# Altium footprint library TI PCB.PCBLIB: 93 footprints (part 1 of 6)
Each footprint in its own frame and in the unit in brackets; x right, y up, seen from the top. Pads: shape width x height; smd on the part's side, far side on the other; paste and mask are expansions set on the pad; w line width, h text height; cw(c..) or ccw(c..) is an arc to the next point about the centre after c.
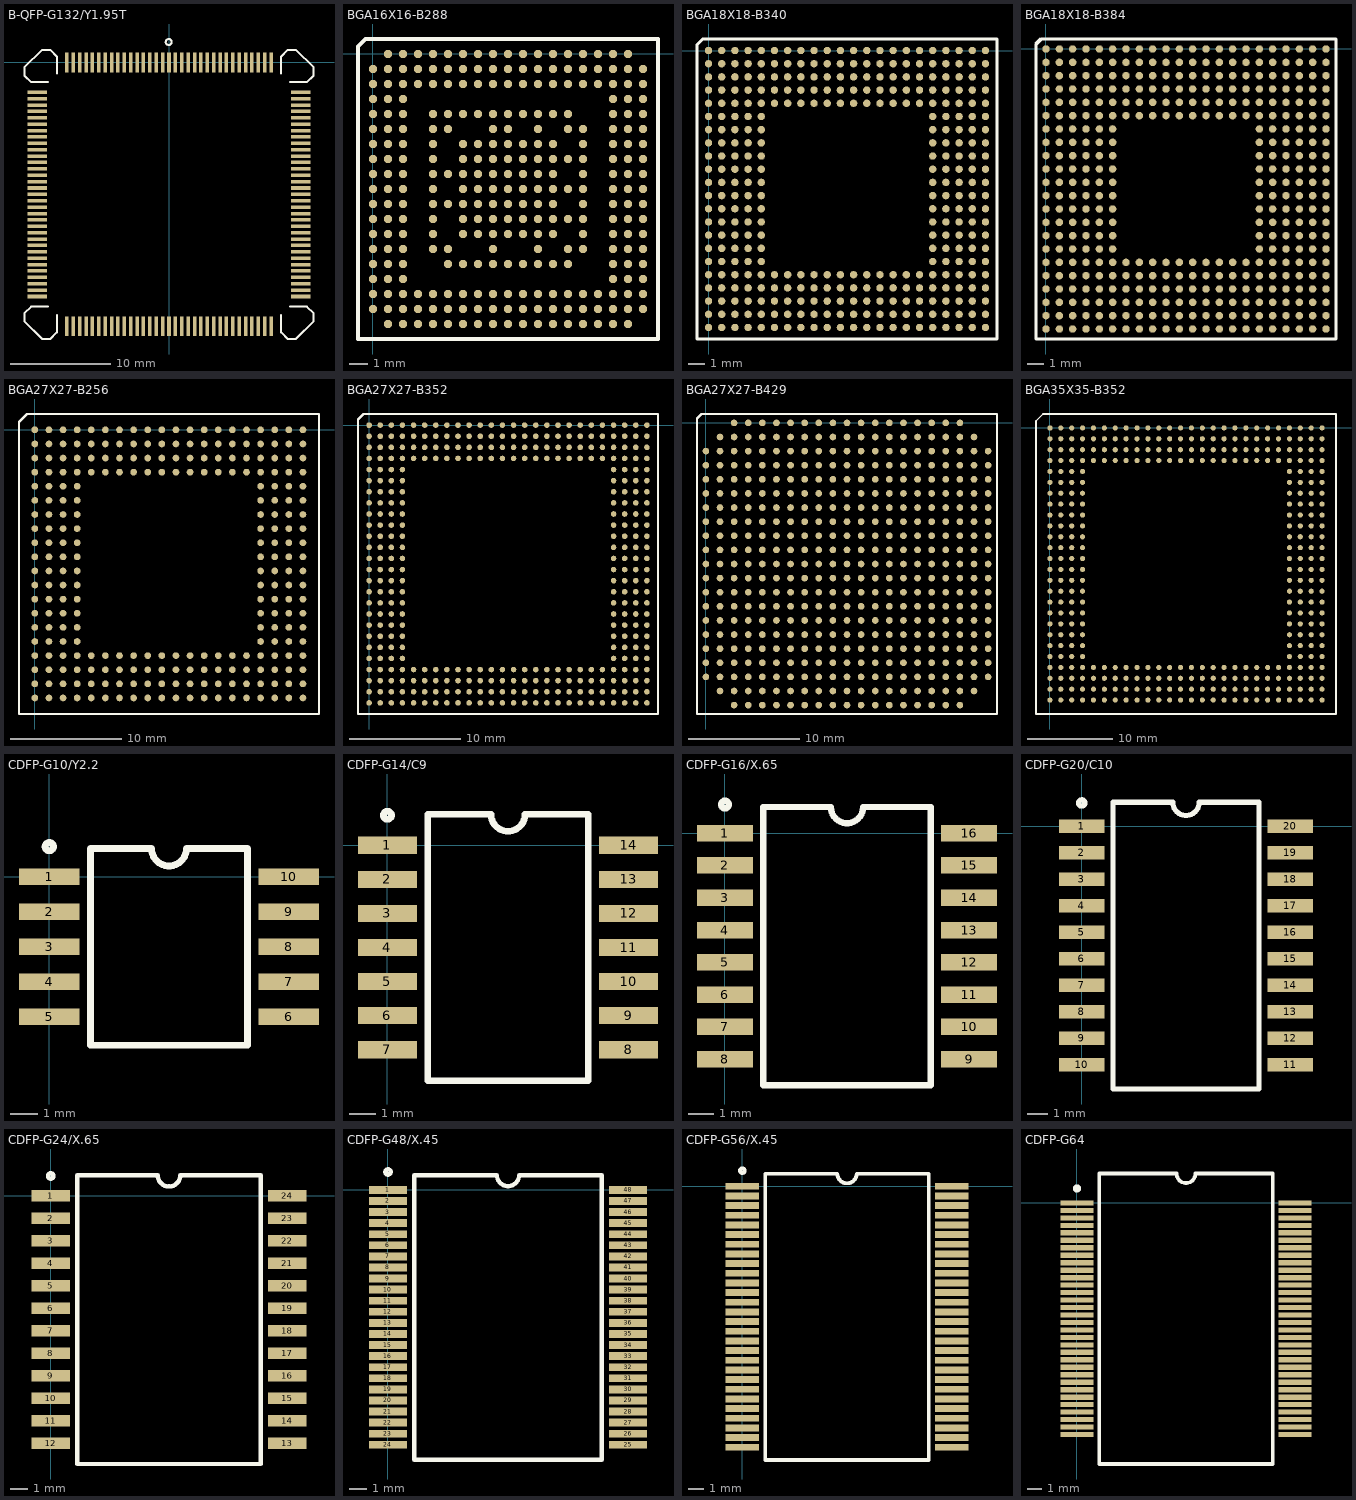
[diagram p0: the footprints below, top view; thin cyan lines are the x and y axes]

## B-QFP-G132/Y1.95T [mm]
pads (132):
  rect 0.35x1.95 smd: 1(0,0) 2(-0.635,0) 3(-1.27,0) 4(-1.905,0) 5(-2.54,0) 6(-3.175,0) 7(-3.81,0) 8(-4.445,0) 9(-5.08,0) 10(-5.715,0) 11(-6.35,0) 12(-6.985,0) 13(-7.62,0) 14(-8.255,0) 15(-8.89,0) 16(-9.525,0) 17(-10.16,0) 51(-10.16,-26.25) 52(-9.525,-26.25) 53(-8.89,-26.25) 54(-8.255,-26.25) 55(-7.62,-26.25) 56(-6.985,-26.25) 57(-6.35,-26.25) 58(-5.715,-26.25) 59(-5.08,-26.25) 60(-4.445,-26.25) 61(-3.81,-26.25) 62(-3.175,-26.25) 63(-2.54,-26.25) 64(-1.905,-26.25) 65(-1.27,-26.25) 66(-0.635,-26.25) 67(0,-26.25) 68(0.635,-26.25) 69(1.27,-26.25) 70(1.905,-26.25) 71(2.54,-26.25) 72(3.175,-26.25) 73(3.81,-26.25) 74(4.445,-26.25) 75(5.08,-26.25) 76(5.715,-26.25) 77(6.35,-26.25) 78(6.985,-26.25) 79(7.62,-26.25) 80(8.255,-26.25) 81(8.89,-26.25) 82(9.525,-26.25) 83(10.16,-26.25) 117(10.16,0) 118(9.525,0) 119(8.89,0) 120(8.255,0) 121(7.62,0) 122(6.985,0) 123(6.35,0) 124(5.715,0) 125(5.08,0) 126(4.445,0) 127(3.81,0) 128(3.175,0) 129(2.54,0) 130(1.905,0) 131(1.27,0) 132(0.635,0)
  rect 1.95x0.35 smd: 18(-13.125,-2.965) 19(-13.125,-3.6) 20(-13.125,-4.235) 21(-13.125,-4.87) 22(-13.125,-5.505) 23(-13.125,-6.14) 24(-13.125,-6.775) 25(-13.125,-7.41) 26(-13.125,-8.045) 27(-13.125,-8.68) 28(-13.125,-9.315) 29(-13.125,-9.95) 30(-13.125,-10.585) 31(-13.125,-11.22) 32(-13.125,-11.855) 33(-13.125,-12.49) 34(-13.125,-13.125) 35(-13.125,-13.76) 36(-13.125,-14.395) 37(-13.125,-15.03) 38(-13.125,-15.665) 39(-13.125,-16.3) 40(-13.125,-16.935) 41(-13.125,-17.57) 42(-13.125,-18.205) 43(-13.125,-18.84) 44(-13.125,-19.475) 45(-13.125,-20.11) 46(-13.125,-20.745) 47(-13.125,-21.38) 48(-13.125,-22.015) 49(-13.125,-22.65) 50(-13.125,-23.285) 84(13.125,-23.285) 85(13.125,-22.65) 86(13.125,-22.015) 87(13.125,-21.38) 88(13.125,-20.745) 89(13.125,-20.11) 90(13.125,-19.475) 91(13.125,-18.84) 92(13.125,-18.205) 93(13.125,-17.57) 94(13.125,-16.935) 95(13.125,-16.3) 96(13.125,-15.665) 97(13.125,-15.03) 98(13.125,-14.395) 99(13.125,-13.76) 100(13.125,-13.125) 101(13.125,-12.49) 102(13.125,-11.855) 103(13.125,-11.22) 104(13.125,-10.585) 105(13.125,-9.95) 106(13.125,-9.315) 107(13.125,-8.68) 108(13.125,-8.045) 109(13.125,-7.41) 110(13.125,-6.775) 111(13.125,-6.14) 112(13.125,-5.505) 113(13.125,-4.87) 114(13.125,-4.235) 115(13.125,-3.6) 116(13.125,-2.965)
Top Overlay:
  circle w0.2: c-0.03,2.035 r0.3
  lines w0.2: -12.02,-24.285 -13.717,-24.285 -14.387,-24.955 -14.387,-25.755 -12.63,-27.512 -11.83,-27.512 -11.16,-26.842 -11.16,-25.145 ; -12.02,-1.965 -13.717,-1.965 -14.387,-1.295 -14.387,-0.495 -12.63,1.263 -11.83,1.263 -11.16,0.593 -11.16,-1.105 ; 11.16,-25.145 11.16,-26.842 11.83,-27.512 12.63,-27.512 14.387,-25.755 14.387,-24.955 13.717,-24.285 12.02,-24.285 ; 11.16,-1.105 11.16,0.593 11.83,1.263 12.63,1.263 14.387,-0.495 14.387,-1.295 13.717,-1.965 12.02,-1.965

## BGA16X16-B288 [mm]
pads (288):
  round 0.45 smd: A2(0.8,0) A3(1.6,0) A4(2.4,0) A5(3.2,0) A6(4,0) A7(4.8,0) A8(5.6,0) A9(6.4,0) A10(7.2,0) A11(8,0) A12(8.8,0) A13(9.6,0) A14(10.4,0) A15(11.2,0) A16(12,0) A17(12.8,0) A18(13.6,0) B1(0,-0.8) B2(0.8,-0.8) B3(1.6,-0.8) B4(2.4,-0.8) B5(3.2,-0.8) B6(4,-0.8) B7(4.8,-0.8) B8(5.6,-0.8) B9(6.4,-0.8) B10(7.2,-0.8) B11(8,-0.8) B12(8.8,-0.8) B13(9.6,-0.8) B14(10.4,-0.8) B15(11.2,-0.8) B16(12,-0.8) B17(12.8,-0.8) B18(13.6,-0.8) B19(14.4,-0.8) C1(0,-1.6) C2(0.8,-1.6) C3(1.6,-1.6) C4(2.4,-1.6) C5(3.2,-1.6) C6(4,-1.6) C7(4.8,-1.6) C8(5.6,-1.6) C9(6.4,-1.6) C10(7.2,-1.6) C11(8,-1.6) C12(8.8,-1.6) C13(9.6,-1.6) C14(10.4,-1.6) C15(11.2,-1.6) C16(12,-1.6) C17(12.8,-1.6) C18(13.6,-1.6) C19(14.4,-1.6) D1(0,-2.4) D2(0.8,-2.4) D3(1.6,-2.4) D17(12.8,-2.4) D18(13.6,-2.4) D19(14.4,-2.4) E1(0,-3.2) E2(0.8,-3.2) E3(1.6,-3.2) E5(3.2,-3.2) E6(4,-3.2) E7(4.8,-3.2) E8(5.6,-3.2) E9(6.4,-3.2) E10(7.2,-3.2) E11(8,-3.2) E12(8.8,-3.2) E13(9.6,-3.2) E14(10.4,-3.2) E17(12.8,-3.2) E18(13.6,-3.2) E19(14.4,-3.2) F1(0,-4) F2(0.8,-4) F3(1.6,-4) F5(3.2,-4) F6(4,-4) F9(6.4,-4) F10(7.2,-4) F12(8.8,-4) F14(10.4,-4) F15(11.2,-4) F17(12.8,-4) F18(13.6,-4) F19(14.4,-4) G1(0,-4.8) G2(0.8,-4.8) G3(1.6,-4.8) G5(3.2,-4.8) G7(4.8,-4.8) G8(5.6,-4.8) G9(6.4,-4.8) G10(7.2,-4.8) G11(8,-4.8) G12(8.8,-4.8) G13(9.6,-4.8) G15(11.2,-4.8) G17(12.8,-4.8) G18(13.6,-4.8) G19(14.4,-4.8) H1(0,-5.6) H2(0.8,-5.6) H3(1.6,-5.6) H5(3.2,-5.6) H7(4.8,-5.6) H8(5.6,-5.6) H9(6.4,-5.6) H10(7.2,-5.6) H11(8,-5.6) H12(8.8,-5.6) H13(9.6,-5.6) H14(10.4,-5.6) H15(11.2,-5.6) H17(12.8,-5.6) H18(13.6,-5.6) H19(14.4,-5.6) J1(0,-6.4) J2(0.8,-6.4) J3(1.6,-6.4) J5(3.2,-6.4) J6(4,-6.4) J7(4.8,-6.4) J8(5.6,-6.4) J9(6.4,-6.4) J10(7.2,-6.4) J11(8,-6.4) J12(8.8,-6.4) J13(9.6,-6.4) J15(11.2,-6.4) J17(12.8,-6.4) J18(13.6,-6.4) J19(14.4,-6.4) K1(0,-7.2) K2(0.8,-7.2) K3(1.6,-7.2) K5(3.2,-7.2) K7(4.8,-7.2) K8(5.6,-7.2) K9(6.4,-7.2) K10(7.2,-7.2) K11(8,-7.2) K12(8.8,-7.2) K13(9.6,-7.2) K14(10.4,-7.2) K15(11.2,-7.2) K17(12.8,-7.2) K18(13.6,-7.2) K19(14.4,-7.2) L1(0,-8) L2(0.8,-8) L3(1.6,-8) L5(3.2,-8) L6(4,-8) L7(4.8,-8) L8(5.6,-8) L9(6.4,-8) L10(7.2,-8) L11(8,-8) L12(8.8,-8) L13(9.6,-8) L15(11.2,-8) L17(12.8,-8) L18(13.6,-8) L19(14.4,-8) M1(0,-8.8) M2(0.8,-8.8) M3(1.6,-8.8) M5(3.2,-8.8) M7(4.8,-8.8) M8(5.6,-8.8) M9(6.4,-8.8) M10(7.2,-8.8) M11(8,-8.8) M12(8.8,-8.8) M13(9.6,-8.8) M14(10.4,-8.8) M15(11.2,-8.8) M17(12.8,-8.8) M18(13.6,-8.8) M19(14.4,-8.8) N1(0,-9.6) N2(0.8,-9.6) N3(1.6,-9.6) N5(3.2,-9.6) N7(4.8,-9.6) N8(5.6,-9.6) N9(6.4,-9.6) N10(7.2,-9.6) N11(8,-9.6) N12(8.8,-9.6) N13(9.6,-9.6) N15(11.2,-9.6) N17(12.8,-9.6) N18(13.6,-9.6) N19(14.4,-9.6) P1(0,-10.4) P2(0.8,-10.4) P3(1.6,-10.4) P5(3.2,-10.4) P6(4,-10.4) P9(6.4,-10.4) P12(8.8,-10.4) P14(10.4,-10.4) P15(11.2,-10.4) P17(12.8,-10.4) P18(13.6,-10.4) P19(14.4,-10.4) R1(0,-11.2) R2(0.8,-11.2) R3(1.6,-11.2) R6(4,-11.2) R7(4.8,-11.2) R8(5.6,-11.2) R9(6.4,-11.2) R10(7.2,-11.2) R11(8,-11.2) R12(8.8,-11.2) R13(9.6,-11.2) R14(10.4,-11.2) R17(12.8,-11.2) R18(13.6,-11.2) R19(14.4,-11.2) T1(0,-12) T2(0.8,-12) T3(1.6,-12) T17(12.8,-12) T18(13.6,-12) T19(14.4,-12) U1(0,-12.8) U2(0.8,-12.8) U3(1.6,-12.8) U4(2.4,-12.8) U5(3.2,-12.8) U6(4,-12.8) U7(4.8,-12.8) U8(5.6,-12.8) U9(6.4,-12.8) U10(7.2,-12.8) U11(8,-12.8) U12(8.8,-12.8) U13(9.6,-12.8) U14(10.4,-12.8) U15(11.2,-12.8) U16(12,-12.8) U17(12.8,-12.8) U18(13.6,-12.8) U19(14.4,-12.8) V1(0,-13.6) V2(0.8,-13.6) V3(1.6,-13.6) V4(2.4,-13.6) V5(3.2,-13.6) V6(4,-13.6) V7(4.8,-13.6) V8(5.6,-13.6) V9(6.4,-13.6) V10(7.2,-13.6) V11(8,-13.6) V12(8.8,-13.6) V13(9.6,-13.6) V14(10.4,-13.6) V15(11.2,-13.6) V16(12,-13.6) V17(12.8,-13.6) V18(13.6,-13.6) V19(14.4,-13.6) W2(0.8,-14.4) W3(1.6,-14.4) W4(2.4,-14.4) W5(3.2,-14.4) W6(4,-14.4) W7(4.8,-14.4) W8(5.6,-14.4) W9(6.4,-14.4) W10(7.2,-14.4) W11(8,-14.4) W12(8.8,-14.4) W13(9.6,-14.4) W14(10.4,-14.4) W15(11.2,-14.4) W16(12,-14.4) W17(12.8,-14.4) W18(13.6,-14.4)
Top Overlay:
  lines w0.2: -0.8,-15.2 -0.8,0.4 -0.4,0.8 15.2,0.8 15.2,-15.2 -0.8,-15.2

## BGA18X18-B340 [mm]
pads (340):
  oct 0.45x0.45 smd: A1(0,0)
  round 0.45 smd: A2(0.8,0) A3(1.6,0) A4(2.4,0) A5(3.2,0) A6(4,0) A7(4.8,0) A8(5.6,0) A9(6.4,0) A10(7.2,0) A11(8,0) A12(8.8,0) A13(9.6,0) A14(10.4,0) A15(11.2,0) A16(12,0) A17(12.8,0) A18(13.6,0) A19(14.4,0) A20(15.2,0) A21(16,0) A22(16.8,0) AA1(0,-16) AA2(0.8,-16) AA3(1.6,-16) AA4(2.4,-16) AA5(3.2,-16) AA6(4,-16) AA7(4.8,-16) AA8(5.6,-16) AA9(6.4,-16) AA10(7.2,-16) AA11(8,-16) AA12(8.8,-16) AA13(9.6,-16) AA14(10.4,-16) AA15(11.2,-16) AA16(12,-16) AA17(12.8,-16) AA18(13.6,-16) AA19(14.4,-16) AA20(15.2,-16) AA21(16,-16) AA22(16.8,-16) AB1(0,-16.8) AB2(0.8,-16.8) AB3(1.6,-16.8) AB4(2.4,-16.8) AB5(3.2,-16.8) AB6(4,-16.8) AB7(4.8,-16.8) AB8(5.6,-16.8) AB9(6.4,-16.8) AB10(7.2,-16.8) AB11(8,-16.8) AB12(8.8,-16.8) AB13(9.6,-16.8) AB14(10.4,-16.8) AB15(11.2,-16.8) AB16(12,-16.8) AB17(12.8,-16.8) AB18(13.6,-16.8) AB19(14.4,-16.8) AB20(15.2,-16.8) AB21(16,-16.8) AB22(16.8,-16.8) B1(0,-0.8) B2(0.8,-0.8) B3(1.6,-0.8) B4(2.4,-0.8) B5(3.2,-0.8) B6(4,-0.8) B7(4.8,-0.8) B8(5.6,-0.8) B9(6.4,-0.8) B10(7.2,-0.8) B11(8,-0.8) B12(8.8,-0.8) B13(9.6,-0.8) B14(10.4,-0.8) B15(11.2,-0.8) B16(12,-0.8) B17(12.8,-0.8) B18(13.6,-0.8) B19(14.4,-0.8) B20(15.2,-0.8) B21(16,-0.8) B22(16.8,-0.8) C1(0,-1.6) C2(0.8,-1.6) C3(1.6,-1.6) C4(2.4,-1.6) C5(3.2,-1.6) C6(4,-1.6) C7(4.8,-1.6) C8(5.6,-1.6) C9(6.4,-1.6) C10(7.2,-1.6) C11(8,-1.6) C12(8.8,-1.6) C13(9.6,-1.6) C14(10.4,-1.6) C15(11.2,-1.6) C16(12,-1.6) C17(12.8,-1.6) C18(13.6,-1.6) C19(14.4,-1.6) C20(15.2,-1.6) C21(16,-1.6) C22(16.8,-1.6) D1(0,-2.4) D2(0.8,-2.4) D3(1.6,-2.4) D4(2.4,-2.4) D5(3.2,-2.4) D6(4,-2.4) D7(4.8,-2.4) D8(5.6,-2.4) D9(6.4,-2.4) D10(7.2,-2.4) D11(8,-2.4) D12(8.8,-2.4) D13(9.6,-2.4) D14(10.4,-2.4) D15(11.2,-2.4) D16(12,-2.4) D17(12.8,-2.4) D18(13.6,-2.4) D19(14.4,-2.4) D20(15.2,-2.4) D21(16,-2.4) D22(16.8,-2.4) E1(0,-3.2) E2(0.8,-3.2) E3(1.6,-3.2) E4(2.4,-3.2) E5(3.2,-3.2) E6(4,-3.2) E7(4.8,-3.2) E8(5.6,-3.2) E9(6.4,-3.2) E10(7.2,-3.2) E11(8,-3.2) E12(8.8,-3.2) E13(9.6,-3.2) E14(10.4,-3.2) E15(11.2,-3.2) E16(12,-3.2) E17(12.8,-3.2) E18(13.6,-3.2) E19(14.4,-3.2) E20(15.2,-3.2) E21(16,-3.2) E22(16.8,-3.2) F1(0,-4) F2(0.8,-4) F3(1.6,-4) F4(2.4,-4) F5(3.2,-4) F18(13.6,-4) F19(14.4,-4) F20(15.2,-4) F21(16,-4) F22(16.8,-4) G1(0,-4.8) G2(0.8,-4.8) G3(1.6,-4.8) G4(2.4,-4.8) G5(3.2,-4.8) G18(13.6,-4.8) G19(14.4,-4.8) G20(15.2,-4.8) G21(16,-4.8) G22(16.8,-4.8) H1(0,-5.6) H2(0.8,-5.6) H3(1.6,-5.6) H4(2.4,-5.6) H5(3.2,-5.6) H18(13.6,-5.6) H19(14.4,-5.6) H20(15.2,-5.6) H21(16,-5.6) H22(16.8,-5.6) J1(0,-6.4) J2(0.8,-6.4) J3(1.6,-6.4) J4(2.4,-6.4) J5(3.2,-6.4) J18(13.6,-6.4) J19(14.4,-6.4) J20(15.2,-6.4) J21(16,-6.4) J22(16.8,-6.4) K1(0,-7.2) K2(0.8,-7.2) K3(1.6,-7.2) K4(2.4,-7.2) K5(3.2,-7.2) K18(13.6,-7.2) K19(14.4,-7.2) K20(15.2,-7.2) K21(16,-7.2) K22(16.8,-7.2) L1(0,-8) L2(0.8,-8) L3(1.6,-8) L4(2.4,-8) L5(3.2,-8) L18(13.6,-8) L19(14.4,-8) L20(15.2,-8) L21(16,-8) L22(16.8,-8) M1(0,-8.8) M2(0.8,-8.8) M3(1.6,-8.8) M4(2.4,-8.8) M5(3.2,-8.8) M18(13.6,-8.8) M19(14.4,-8.8) M20(15.2,-8.8) M21(16,-8.8) M22(16.8,-8.8) N1(0,-9.6) N2(0.8,-9.6) N3(1.6,-9.6) N4(2.4,-9.6) N5(3.2,-9.6) N18(13.6,-9.6) N19(14.4,-9.6) N20(15.2,-9.6) N21(16,-9.6) N22(16.8,-9.6) P1(0,-10.4) P2(0.8,-10.4) P3(1.6,-10.4) P4(2.4,-10.4) P5(3.2,-10.4) P18(13.6,-10.4) P19(14.4,-10.4) P20(15.2,-10.4) P21(16,-10.4) P22(16.8,-10.4) R1(0,-11.2) R2(0.8,-11.2) R3(1.6,-11.2) R4(2.4,-11.2) R5(3.2,-11.2) R18(13.6,-11.2) R19(14.4,-11.2) R20(15.2,-11.2) R21(16,-11.2) R22(16.8,-11.2) T1(0,-12) T2(0.8,-12) T3(1.6,-12) T4(2.4,-12) T5(3.2,-12) T18(13.6,-12) T19(14.4,-12) T20(15.2,-12) T21(16,-12) T22(16.8,-12) U1(0,-12.8) U2(0.8,-12.8) U3(1.6,-12.8) U4(2.4,-12.8) U5(3.2,-12.8) U18(13.6,-12.8) U19(14.4,-12.8) U20(15.2,-12.8) U21(16,-12.8) U22(16.8,-12.8) V1(0,-13.6) V2(0.8,-13.6) V3(1.6,-13.6) V4(2.4,-13.6) V5(3.2,-13.6) V6(4,-13.6) V7(4.8,-13.6) V8(5.6,-13.6) V9(6.4,-13.6) V10(7.2,-13.6) V11(8,-13.6) V12(8.8,-13.6) V13(9.6,-13.6) V14(10.4,-13.6) V15(11.2,-13.6) V16(12,-13.6) V17(12.8,-13.6) V18(13.6,-13.6) V19(14.4,-13.6) V20(15.2,-13.6) V21(16,-13.6) V22(16.8,-13.6) W1(0,-14.4) W2(0.8,-14.4) W3(1.6,-14.4) W4(2.4,-14.4) W5(3.2,-14.4) W6(4,-14.4) W7(4.8,-14.4) W8(5.6,-14.4) W9(6.4,-14.4) W10(7.2,-14.4) W11(8,-14.4) W12(8.8,-14.4) W13(9.6,-14.4) W14(10.4,-14.4) W15(11.2,-14.4) W16(12,-14.4) W17(12.8,-14.4) W18(13.6,-14.4) W19(14.4,-14.4) W20(15.2,-14.4) W21(16,-14.4) W22(16.8,-14.4) Y1(0,-15.2) Y2(0.8,-15.2) Y3(1.6,-15.2) Y4(2.4,-15.2) Y5(3.2,-15.2) Y6(4,-15.2) Y7(4.8,-15.2) Y8(5.6,-15.2) Y9(6.4,-15.2) Y10(7.2,-15.2) Y11(8,-15.2) Y12(8.8,-15.2) Y13(9.6,-15.2) Y14(10.4,-15.2) Y15(11.2,-15.2) Y16(12,-15.2) Y17(12.8,-15.2) Y18(13.6,-15.2) Y19(14.4,-15.2) Y20(15.2,-15.2) Y21(16,-15.2) Y22(16.8,-15.2)
Top Overlay:
  lines w0.2: -0.7,-17.5 -0.7,0.35 -0.35,0.7 17.5,0.7 17.5,-17.5 -0.7,-17.5

## BGA18X18-B384 [mm]
pads (384):
  oct 0.45x0.45 smd: A1(0,0)
  round 0.45 smd: A2(0.8,0) A3(1.6,0) A4(2.4,0) A5(3.2,0) A6(4,0) A7(4.8,0) A8(5.6,0) A9(6.4,0) A10(7.2,0) A11(8,0) A12(8.8,0) A13(9.6,0) A14(10.4,0) A15(11.2,0) A16(12,0) A17(12.8,0) A18(13.6,0) A19(14.4,0) A20(15.2,0) A21(16,0) A22(16.8,0) AA1(0,-16) AA2(0.8,-16) AA3(1.6,-16) AA4(2.4,-16) AA5(3.2,-16) AA6(4,-16) AA7(4.8,-16) AA8(5.6,-16) AA9(6.4,-16) AA10(7.2,-16) AA11(8,-16) AA12(8.8,-16) AA13(9.6,-16) AA14(10.4,-16) AA15(11.2,-16) AA16(12,-16) AA17(12.8,-16) AA18(13.6,-16) AA19(14.4,-16) AA20(15.2,-16) AA21(16,-16) AA22(16.8,-16) AB1(0,-16.8) AB2(0.8,-16.8) AB3(1.6,-16.8) AB4(2.4,-16.8) AB5(3.2,-16.8) AB6(4,-16.8) AB7(4.8,-16.8) AB8(5.6,-16.8) AB9(6.4,-16.8) AB10(7.2,-16.8) AB11(8,-16.8) AB12(8.8,-16.8) AB13(9.6,-16.8) AB14(10.4,-16.8) AB15(11.2,-16.8) AB16(12,-16.8) AB17(12.8,-16.8) AB18(13.6,-16.8) AB19(14.4,-16.8) AB20(15.2,-16.8) AB21(16,-16.8) AB22(16.8,-16.8) B1(0,-0.8) B2(0.8,-0.8) B3(1.6,-0.8) B4(2.4,-0.8) B5(3.2,-0.8) B6(4,-0.8) B7(4.8,-0.8) B8(5.6,-0.8) B9(6.4,-0.8) B10(7.2,-0.8) B11(8,-0.8) B12(8.8,-0.8) B13(9.6,-0.8) B14(10.4,-0.8) B15(11.2,-0.8) B16(12,-0.8) B17(12.8,-0.8) B18(13.6,-0.8) B19(14.4,-0.8) B20(15.2,-0.8) B21(16,-0.8) B22(16.8,-0.8) C1(0,-1.6) C2(0.8,-1.6) C3(1.6,-1.6) C4(2.4,-1.6) C5(3.2,-1.6) C6(4,-1.6) C7(4.8,-1.6) C8(5.6,-1.6) C9(6.4,-1.6) C10(7.2,-1.6) C11(8,-1.6) C12(8.8,-1.6) C13(9.6,-1.6) C14(10.4,-1.6) C15(11.2,-1.6) C16(12,-1.6) C17(12.8,-1.6) C18(13.6,-1.6) C19(14.4,-1.6) C20(15.2,-1.6) C21(16,-1.6) C22(16.8,-1.6) D1(0,-2.4) D2(0.8,-2.4) D3(1.6,-2.4) D4(2.4,-2.4) D5(3.2,-2.4) D6(4,-2.4) D7(4.8,-2.4) D8(5.6,-2.4) D9(6.4,-2.4) D10(7.2,-2.4) D11(8,-2.4) D12(8.8,-2.4) D13(9.6,-2.4) D14(10.4,-2.4) D15(11.2,-2.4) D16(12,-2.4) D17(12.8,-2.4) D18(13.6,-2.4) D19(14.4,-2.4) D20(15.2,-2.4) D21(16,-2.4) D22(16.8,-2.4) E1(0,-3.2) E2(0.8,-3.2) E3(1.6,-3.2) E4(2.4,-3.2) E5(3.2,-3.2) E6(4,-3.2) E7(4.8,-3.2) E8(5.6,-3.2) E9(6.4,-3.2) E10(7.2,-3.2) E11(8,-3.2) E12(8.8,-3.2) E13(9.6,-3.2) E14(10.4,-3.2) E15(11.2,-3.2) E16(12,-3.2) E17(12.8,-3.2) E18(13.6,-3.2) E19(14.4,-3.2) E20(15.2,-3.2) E21(16,-3.2) E22(16.8,-3.2) F1(0,-4) F2(0.8,-4) F3(1.6,-4) F4(2.4,-4) F5(3.2,-4) F6(4,-4) F7(4.8,-4) F8(5.6,-4) F9(6.4,-4) F10(7.2,-4) F11(8,-4) F12(8.8,-4) F13(9.6,-4) F14(10.4,-4) F15(11.2,-4) F16(12,-4) F17(12.8,-4) F18(13.6,-4) F19(14.4,-4) F20(15.2,-4) F21(16,-4) F22(16.8,-4) G1(0,-4.8) G2(0.8,-4.8) G3(1.6,-4.8) G4(2.4,-4.8) G5(3.2,-4.8) G6(4,-4.8) G17(12.8,-4.8) G18(13.6,-4.8) G19(14.4,-4.8) G20(15.2,-4.8) G21(16,-4.8) G22(16.8,-4.8) H1(0,-5.6) H2(0.8,-5.6) H3(1.6,-5.6) H4(2.4,-5.6) H5(3.2,-5.6) H6(4,-5.6) H17(12.8,-5.6) H18(13.6,-5.6) H19(14.4,-5.6) H20(15.2,-5.6) H21(16,-5.6) H22(16.8,-5.6) J1(0,-6.4) J2(0.8,-6.4) J3(1.6,-6.4) J4(2.4,-6.4) J5(3.2,-6.4) J6(4,-6.4) J17(12.8,-6.4) J18(13.6,-6.4) J19(14.4,-6.4) J20(15.2,-6.4) J21(16,-6.4) J22(16.8,-6.4) K1(0,-7.2) K2(0.8,-7.2) K3(1.6,-7.2) K4(2.4,-7.2) K5(3.2,-7.2) K6(4,-7.2) K17(12.8,-7.2) K18(13.6,-7.2) K19(14.4,-7.2) K20(15.2,-7.2) K21(16,-7.2) K22(16.8,-7.2) L1(0,-8) L2(0.8,-8) L3(1.6,-8) L4(2.4,-8) L5(3.2,-8) L6(4,-8) L17(12.8,-8) L18(13.6,-8) L19(14.4,-8) L20(15.2,-8) L21(16,-8) L22(16.8,-8) M1(0,-8.8) M2(0.8,-8.8) M3(1.6,-8.8) M4(2.4,-8.8) M5(3.2,-8.8) M6(4,-8.8) M17(12.8,-8.8) M18(13.6,-8.8) M19(14.4,-8.8) M20(15.2,-8.8) M21(16,-8.8) M22(16.8,-8.8) N1(0,-9.6) N2(0.8,-9.6) N3(1.6,-9.6) N4(2.4,-9.6) N5(3.2,-9.6) N6(4,-9.6) N17(12.8,-9.6) N18(13.6,-9.6) N19(14.4,-9.6) N20(15.2,-9.6) N21(16,-9.6) N22(16.8,-9.6) P1(0,-10.4) P2(0.8,-10.4) P3(1.6,-10.4) P4(2.4,-10.4) P5(3.2,-10.4) P6(4,-10.4) P17(12.8,-10.4) P18(13.6,-10.4) P19(14.4,-10.4) P20(15.2,-10.4) P21(16,-10.4) P22(16.8,-10.4) R1(0,-11.2) R2(0.8,-11.2) R3(1.6,-11.2) R4(2.4,-11.2) R5(3.2,-11.2) R6(4,-11.2) R17(12.8,-11.2) R18(13.6,-11.2) R19(14.4,-11.2) R20(15.2,-11.2) R21(16,-11.2) R22(16.8,-11.2) T1(0,-12) T2(0.8,-12) T3(1.6,-12) T4(2.4,-12) T5(3.2,-12) T6(4,-12) T17(12.8,-12) T18(13.6,-12) T19(14.4,-12) T20(15.2,-12) T21(16,-12) T22(16.8,-12) U1(0,-12.8) U2(0.8,-12.8) U3(1.6,-12.8) U4(2.4,-12.8) U5(3.2,-12.8) U6(4,-12.8) U7(4.8,-12.8) U8(5.6,-12.8) U9(6.4,-12.8) U10(7.2,-12.8) U11(8,-12.8) U12(8.8,-12.8) U13(9.6,-12.8) U14(10.4,-12.8) U15(11.2,-12.8) U16(12,-12.8) U17(12.8,-12.8) U18(13.6,-12.8) U19(14.4,-12.8) U20(15.2,-12.8) U21(16,-12.8) U22(16.8,-12.8) V1(0,-13.6) V2(0.8,-13.6) V3(1.6,-13.6) V4(2.4,-13.6) V5(3.2,-13.6) V6(4,-13.6) V7(4.8,-13.6) V8(5.6,-13.6) V9(6.4,-13.6) V10(7.2,-13.6) V11(8,-13.6) V12(8.8,-13.6) V13(9.6,-13.6) V14(10.4,-13.6) V15(11.2,-13.6) V16(12,-13.6) V17(12.8,-13.6) V18(13.6,-13.6) V19(14.4,-13.6) V20(15.2,-13.6) V21(16,-13.6) V22(16.8,-13.6) W1(0,-14.4) W2(0.8,-14.4) W3(1.6,-14.4) W4(2.4,-14.4) W5(3.2,-14.4) W6(4,-14.4) W7(4.8,-14.4) W8(5.6,-14.4) W9(6.4,-14.4) W10(7.2,-14.4) W11(8,-14.4) W12(8.8,-14.4) W13(9.6,-14.4) W14(10.4,-14.4) W15(11.2,-14.4) W16(12,-14.4) W17(12.8,-14.4) W18(13.6,-14.4) W19(14.4,-14.4) W20(15.2,-14.4) W21(16,-14.4) W22(16.8,-14.4) Y1(0,-15.2) Y2(0.8,-15.2) Y3(1.6,-15.2) Y4(2.4,-15.2) Y5(3.2,-15.2) Y6(4,-15.2) Y7(4.8,-15.2) Y8(5.6,-15.2) Y9(6.4,-15.2) Y10(7.2,-15.2) Y11(8,-15.2) Y12(8.8,-15.2) Y13(9.6,-15.2) Y14(10.4,-15.2) Y15(11.2,-15.2) Y16(12,-15.2) Y17(12.8,-15.2) Y18(13.6,-15.2) Y19(14.4,-15.2) Y20(15.2,-15.2) Y21(16,-15.2) Y22(16.8,-15.2)
Top Overlay:
  lines w0.2: -0.6,-17.4 17.4,-17.4 17.4,0.6 -0.3,0.6 -0.6,0.3 -0.6,-17.4

## BGA27X27-B256 [mm]
pads (256):
  oct 0.6x0.6 smd: A1(0,0)
  round 0.6 smd: A2(1.27,0) A3(2.54,0) A4(3.81,0) A5(5.08,0) A6(6.35,0) A7(7.62,0) A8(8.89,0) A9(10.16,0) A10(11.43,0) A11(12.7,0) A12(13.97,0) A13(15.24,0) A14(16.51,0) A15(17.78,0) A16(19.05,0) A17(20.32,0) A18(21.59,0) A19(22.86,0) A20(24.13,0) B1(0,-1.27) B2(1.27,-1.27) B3(2.54,-1.27) B4(3.81,-1.27) B5(5.08,-1.27) B6(6.35,-1.27) B7(7.62,-1.27) B8(8.89,-1.27) B9(10.16,-1.27) B10(11.43,-1.27) B11(12.7,-1.27) B12(13.97,-1.27) B13(15.24,-1.27) B14(16.51,-1.27) B15(17.78,-1.27) B16(19.05,-1.27) B17(20.32,-1.27) B18(21.59,-1.27) B19(22.86,-1.27) B20(24.13,-1.27) C1(0,-2.54) C2(1.27,-2.54) C3(2.54,-2.54) C4(3.81,-2.54) C5(5.08,-2.54) C6(6.35,-2.54) C7(7.62,-2.54) C8(8.89,-2.54) C9(10.16,-2.54) C10(11.43,-2.54) C11(12.7,-2.54) C12(13.97,-2.54) C13(15.24,-2.54) C14(16.51,-2.54) C15(17.78,-2.54) C16(19.05,-2.54) C17(20.32,-2.54) C18(21.59,-2.54) C19(22.86,-2.54) C20(24.13,-2.54) D1(0,-3.81) D2(1.27,-3.81) D3(2.54,-3.81) D4(3.81,-3.81) D5(5.08,-3.81) D6(6.35,-3.81) D7(7.62,-3.81) D8(8.89,-3.81) D9(10.16,-3.81) D10(11.43,-3.81) D11(12.7,-3.81) D12(13.97,-3.81) D13(15.24,-3.81) D14(16.51,-3.81) D15(17.78,-3.81) D16(19.05,-3.81) D17(20.32,-3.81) D18(21.59,-3.81) D19(22.86,-3.81) D20(24.13,-3.81) E1(0,-5.08) E2(1.27,-5.08) E3(2.54,-5.08) E4(3.81,-5.08) E17(20.32,-5.08) E18(21.59,-5.08) E19(22.86,-5.08) E20(24.13,-5.08) F1(0,-6.35) F2(1.27,-6.35) F3(2.54,-6.35) F4(3.81,-6.35) F17(20.32,-6.35) F18(21.59,-6.35) F19(22.86,-6.35) F20(24.13,-6.35) G1(0,-7.62) G2(1.27,-7.62) G3(2.54,-7.62) G4(3.81,-7.62) G17(20.32,-7.62) G18(21.59,-7.62) G19(22.86,-7.62) G20(24.13,-7.62) H1(0,-8.89) H2(1.27,-8.89) H3(2.54,-8.89) H4(3.81,-8.89) H17(20.32,-8.89) H18(21.59,-8.89) H19(22.86,-8.89) H20(24.13,-8.89) J1(0,-10.16) J2(1.27,-10.16) J3(2.54,-10.16) J4(3.81,-10.16) J17(20.32,-10.16) J18(21.59,-10.16) J19(22.86,-10.16) J20(24.13,-10.16) K1(0,-11.43) K2(1.27,-11.43) K3(2.54,-11.43) K4(3.81,-11.43) K17(20.32,-11.43) K18(21.59,-11.43) K19(22.86,-11.43) K20(24.13,-11.43) L1(0,-12.7) L2(1.27,-12.7) L3(2.54,-12.7) L4(3.81,-12.7) L17(20.32,-12.7) L18(21.59,-12.7) L19(22.86,-12.7) L20(24.13,-12.7) M1(0,-13.97) M2(1.27,-13.97) M3(2.54,-13.97) M4(3.81,-13.97) M17(20.32,-13.97) M18(21.59,-13.97) M19(22.86,-13.97) M20(24.13,-13.97) N1(0,-15.24) N2(1.27,-15.24) N3(2.54,-15.24) N4(3.81,-15.24) N17(20.32,-15.24) N18(21.59,-15.24) N19(22.86,-15.24) N20(24.13,-15.24) P1(0,-16.51) P2(1.27,-16.51) P3(2.54,-16.51) P4(3.81,-16.51) P17(20.32,-16.51) P18(21.59,-16.51) P19(22.86,-16.51) P20(24.13,-16.51) R1(0,-17.78) R2(1.27,-17.78) R3(2.54,-17.78) R4(3.81,-17.78) R17(20.32,-17.78) R18(21.59,-17.78) R19(22.86,-17.78) R20(24.13,-17.78) T1(0,-19.05) T2(1.27,-19.05) T3(2.54,-19.05) T4(3.81,-19.05) T17(20.32,-19.05) T18(21.59,-19.05) T19(22.86,-19.05) T20(24.13,-19.05) U1(0,-20.32) U2(1.27,-20.32) U3(2.54,-20.32) U4(3.81,-20.32) U5(5.08,-20.32) U6(6.35,-20.32) U7(7.62,-20.32) U8(8.89,-20.32) U9(10.16,-20.32) U10(11.43,-20.32) U11(12.7,-20.32) U12(13.97,-20.32) U13(15.24,-20.32) U14(16.51,-20.32) U15(17.78,-20.32) U16(19.05,-20.32) U17(20.32,-20.32) U18(21.59,-20.32) U19(22.86,-20.32) U20(24.13,-20.32) V1(0,-21.59) V2(1.27,-21.59) V3(2.54,-21.59) V4(3.81,-21.59) V5(5.08,-21.59) V6(6.35,-21.59) V7(7.62,-21.59) V8(8.89,-21.59) V9(10.16,-21.59) V10(11.43,-21.59) V11(12.7,-21.59) V12(13.97,-21.59) V13(15.24,-21.59) V14(16.51,-21.59) V15(17.78,-21.59) V16(19.05,-21.59) V17(20.32,-21.59) V18(21.59,-21.59) V19(22.86,-21.59) V20(24.13,-21.59) W1(0,-22.86) W2(1.27,-22.86) W3(2.54,-22.86) W4(3.81,-22.86) W5(5.08,-22.86) W6(6.35,-22.86) W7(7.62,-22.86) W8(8.89,-22.86) W9(10.16,-22.86) W10(11.43,-22.86) W11(12.7,-22.86) W12(13.97,-22.86) W13(15.24,-22.86) W14(16.51,-22.86) W15(17.78,-22.86) W16(19.05,-22.86) W17(20.32,-22.86) W18(21.59,-22.86) W19(22.86,-22.86) W20(24.13,-22.86) Y1(0,-24.13) Y2(1.27,-24.13) Y3(2.54,-24.13) Y4(3.81,-24.13) Y5(5.08,-24.13) Y6(6.35,-24.13) Y7(7.62,-24.13) Y8(8.89,-24.13) Y9(10.16,-24.13) Y10(11.43,-24.13) Y11(12.7,-24.13) Y12(13.97,-24.13) Y13(15.24,-24.13) Y14(16.51,-24.13) Y15(17.78,-24.13) Y16(19.05,-24.13) Y17(20.32,-24.13) Y18(21.59,-24.13) Y19(22.86,-24.13) Y20(24.13,-24.13)
Top Overlay:
  lines w0.2: -1.425,-25.575 25.575,-25.575 25.575,1.425 -0.712,1.425 -1.425,0.712 -1.425,-25.575

## BGA27X27-B352 [mm]
pads (352):
  oct 0.5x0.5 smd: A1(0,0)
  round 0.5 smd: A2(1,0) A3(2,0) A4(3,0) A5(4,0) A6(5,0) A7(6,0) A8(7,0) A9(8,0) A10(9,0) A11(10,0) A12(11,0) A13(12,0) A14(13,0) A15(14,0) A16(15,0) A17(16,0) A18(17,0) A19(18,0) A20(19,0) A21(20,0) A22(21,0) A23(22,0) A24(23,0) A25(24,0) A26(25,0) AA1(0,-20) AA2(1,-20) AA3(2,-20) AA4(3,-20) AA23(22,-20) AA24(23,-20) AA25(24,-20) AA26(25,-20) AB1(0,-21) AB2(1,-21) AB3(2,-21) AB4(3,-21) AB23(22,-21) AB24(23,-21) AB25(24,-21) AB26(25,-21) AC1(0,-22) AC2(1,-22) AC3(2,-22) AC4(3,-22) AC5(4,-22) AC6(5,-22) AC7(6,-22) AC8(7,-22) AC9(8,-22) AC10(9,-22) AC11(10,-22) AC12(11,-22) AC13(12,-22) AC14(13,-22) AC15(14,-22) AC16(15,-22) AC17(16,-22) AC18(17,-22) AC19(18,-22) AC20(19,-22) AC21(20,-22) AC22(21,-22) AC23(22,-22) AC24(23,-22) AC25(24,-22) AC26(25,-22) AD1(0,-23) AD2(1,-23) AD3(2,-23) AD4(3,-23) AD5(4,-23) AD6(5,-23) AD7(6,-23) AD8(7,-23) AD9(8,-23) AD10(9,-23) AD11(10,-23) AD12(11,-23) AD13(12,-23) AD14(13,-23) AD15(14,-23) AD16(15,-23) AD17(16,-23) AD18(17,-23) AD19(18,-23) AD20(19,-23) AD21(20,-23) AD22(21,-23) AD23(22,-23) AD24(23,-23) AD25(24,-23) AD26(25,-23) AE1(0,-24) AE2(1,-24) AE3(2,-24) AE4(3,-24) AE5(4,-24) AE6(5,-24) AE7(6,-24) AE8(7,-24) AE9(8,-24) AE10(9,-24) AE11(10,-24) AE12(11,-24) AE13(12,-24) AE14(13,-24) AE15(14,-24) AE16(15,-24) AE17(16,-24) AE18(17,-24) AE19(18,-24) AE20(19,-24) AE21(20,-24) AE22(21,-24) AE23(22,-24) AE24(23,-24) AE25(24,-24) AE26(25,-24) AF1(0,-25) AF2(1,-25) AF3(2,-25) AF4(3,-25) AF5(4,-25) AF6(5,-25) AF7(6,-25) AF8(7,-25) AF9(8,-25) AF10(9,-25) AF11(10,-25) AF12(11,-25) AF13(12,-25) AF14(13,-25) AF15(14,-25) AF16(15,-25) AF17(16,-25) AF18(17,-25) AF19(18,-25) AF20(19,-25) AF21(20,-25) AF22(21,-25) AF23(22,-25) AF24(23,-25) AF25(24,-25) AF26(25,-25) B1(0,-1) B2(1,-1) B3(2,-1) B4(3,-1) B5(4,-1) B6(5,-1) B7(6,-1) B8(7,-1) B9(8,-1) B10(9,-1) B11(10,-1) B12(11,-1) B13(12,-1) B14(13,-1) B15(14,-1) B16(15,-1) B17(16,-1) B18(17,-1) B19(18,-1) B20(19,-1) B21(20,-1) B22(21,-1) B23(22,-1) B24(23,-1) B25(24,-1) B26(25,-1) C1(0,-2) C2(1,-2) C3(2,-2) C4(3,-2) C5(4,-2) C6(5,-2) C7(6,-2) C8(7,-2) C9(8,-2) C10(9,-2) C11(10,-2) C12(11,-2) C13(12,-2) C14(13,-2) C15(14,-2) C16(15,-2) C17(16,-2) C18(17,-2) C19(18,-2) C20(19,-2) C21(20,-2) C22(21,-2) C23(22,-2) C24(23,-2) C25(24,-2) C26(25,-2) D1(0,-3) D2(1,-3) D3(2,-3) D4(3,-3) D5(4,-3) D6(5,-3) D7(6,-3) D8(7,-3) D9(8,-3) D10(9,-3) D11(10,-3) D12(11,-3) D13(12,-3) D14(13,-3) D15(14,-3) D16(15,-3) D17(16,-3) D18(17,-3) D19(18,-3) D20(19,-3) D21(20,-3) D22(21,-3) D23(22,-3) D24(23,-3) D25(24,-3) D26(25,-3) E1(0,-4) E2(1,-4) E3(2,-4) E4(3,-4) E23(22,-4) E24(23,-4) E25(24,-4) E26(25,-4) F1(0,-5) F2(1,-5) F3(2,-5) F4(3,-5) F23(22,-5) F24(23,-5) F25(24,-5) F26(25,-5) G1(0,-6) G2(1,-6) G3(2,-6) G4(3,-6) G23(22,-6) G24(23,-6) G25(24,-6) G26(25,-6) H1(0,-7) H2(1,-7) H3(2,-7) H4(3,-7) H23(22,-7) H24(23,-7) H25(24,-7) H26(25,-7) J1(0,-8) J2(1,-8) J3(2,-8) J4(3,-8) J23(22,-8) J24(23,-8) J25(24,-8) J26(25,-8) K1(0,-9) K2(1,-9) K3(2,-9) K4(3,-9) K23(22,-9) K24(23,-9) K25(24,-9) K26(25,-9) L1(0,-10) L2(1,-10) L3(2,-10) L4(3,-10) L23(22,-10) L24(23,-10) L25(24,-10) L26(25,-10) M1(0,-11) M2(1,-11) M3(2,-11) M4(3,-11) M23(22,-11) M24(23,-11) M25(24,-11) M26(25,-11) N1(0,-12) N2(1,-12) N3(2,-12) N4(3,-12) N23(22,-12) N24(23,-12) N25(24,-12) N26(25,-12) P1(0,-13) P2(1,-13) P3(2,-13) P4(3,-13) P23(22,-13) P24(23,-13) P25(24,-13) P26(25,-13) R1(0,-14) R2(1,-14) R3(2,-14) R4(3,-14) R23(22,-14) R24(23,-14) R25(24,-14) R26(25,-14) T1(0,-15) T2(1,-15) T3(2,-15) T4(3,-15) T23(22,-15) T24(23,-15) T25(24,-15) T26(25,-15) U1(0,-16) U2(1,-16) U3(2,-16) U4(3,-16) U23(22,-16) U24(23,-16) U25(24,-16) U26(25,-16) V1(0,-17) V2(1,-17) V3(2,-17) V4(3,-17) V23(22,-17) V24(23,-17) V25(24,-17) V26(25,-17) W1(0,-18) W2(1,-18) W3(2,-18) W4(3,-18) W23(22,-18) W24(23,-18) W25(24,-18) W26(25,-18) Y1(0,-19) Y2(1,-19) Y3(2,-19) Y4(3,-19) Y23(22,-19) Y24(23,-19) Y25(24,-19) Y26(25,-19)
Top Overlay:
  lines w0.2: -1,-26 26,-26 26,1 -0.5,1 -1,0.5 -1,-26

## BGA27X27-B429 [mm]
pads (429):
  round 0.6 smd: A3(2.54,0) A4(3.81,0) A5(5.08,0) A6(6.35,0) A7(7.62,0) A8(8.89,0) A9(10.16,0) A10(11.43,0) A11(12.7,0) A12(13.97,0) A13(15.24,0) A14(16.51,0) A15(17.78,0) A16(19.05,0) A17(20.32,0) A18(21.59,0) A19(22.86,0) AA3(2.54,-25.4) AA4(3.81,-25.4) AA5(5.08,-25.4) AA6(6.35,-25.4) AA7(7.62,-25.4) AA8(8.89,-25.4) AA9(10.16,-25.4) AA10(11.43,-25.4) AA11(12.7,-25.4) AA12(13.97,-25.4) AA13(15.24,-25.4) AA14(16.51,-25.4) AA15(17.78,-25.4) AA16(19.05,-25.4) AA17(20.32,-25.4) AA18(21.59,-25.4) AA19(22.86,-25.4) B2(1.27,-1.27) B3(2.54,-1.27) B4(3.81,-1.27) B5(5.08,-1.27) B6(6.35,-1.27) B7(7.62,-1.27) B8(8.89,-1.27) B9(10.16,-1.27) B10(11.43,-1.27) B11(12.7,-1.27) B12(13.97,-1.27) B13(15.24,-1.27) B14(16.51,-1.27) B15(17.78,-1.27) B16(19.05,-1.27) B17(20.32,-1.27) B18(21.59,-1.27) B19(22.86,-1.27) B20(24.13,-1.27) C1(0,-2.54) C2(1.27,-2.54) C3(2.54,-2.54) C4(3.81,-2.54) C5(5.08,-2.54) C6(6.35,-2.54) C7(7.62,-2.54) C8(8.89,-2.54) C9(10.16,-2.54) C10(11.43,-2.54) C11(12.7,-2.54) C12(13.97,-2.54) C13(15.24,-2.54) C14(16.51,-2.54) C15(17.78,-2.54) C16(19.05,-2.54) C17(20.32,-2.54) C18(21.59,-2.54) C19(22.86,-2.54) C20(24.13,-2.54) C21(25.4,-2.54) D1(0,-3.81) D2(1.27,-3.81) D3(2.54,-3.81) D4(3.81,-3.81) D5(5.08,-3.81) D6(6.35,-3.81) D7(7.62,-3.81) D8(8.89,-3.81) D9(10.16,-3.81) D10(11.43,-3.81) D11(12.7,-3.81) D12(13.97,-3.81) D13(15.24,-3.81) D14(16.51,-3.81) D15(17.78,-3.81) D16(19.05,-3.81) D17(20.32,-3.81) D18(21.59,-3.81) D19(22.86,-3.81) D20(24.13,-3.81) D21(25.4,-3.81) E1(0,-5.08) E2(1.27,-5.08) E3(2.54,-5.08) E4(3.81,-5.08) E5(5.08,-5.08) E6(6.35,-5.08) E7(7.62,-5.08) E8(8.89,-5.08) E9(10.16,-5.08) E10(11.43,-5.08) E11(12.7,-5.08) E12(13.97,-5.08) E13(15.24,-5.08) E14(16.51,-5.08) E15(17.78,-5.08) E16(19.05,-5.08) E17(20.32,-5.08) E18(21.59,-5.08) E19(22.86,-5.08) E20(24.13,-5.08) E21(25.4,-5.08) F1(0,-6.35) F2(1.27,-6.35) F3(2.54,-6.35) F4(3.81,-6.35) F5(5.08,-6.35) F6(6.35,-6.35) F7(7.62,-6.35) F8(8.89,-6.35) F9(10.16,-6.35) F10(11.43,-6.35) F11(12.7,-6.35) F12(13.97,-6.35) F13(15.24,-6.35) F14(16.51,-6.35) F15(17.78,-6.35) F16(19.05,-6.35) F17(20.32,-6.35) F18(21.59,-6.35) F19(22.86,-6.35) F20(24.13,-6.35) F21(25.4,-6.35) G1(0,-7.62) G2(1.27,-7.62) G3(2.54,-7.62) G4(3.81,-7.62) G5(5.08,-7.62) G6(6.35,-7.62) G7(7.62,-7.62) G8(8.89,-7.62) G9(10.16,-7.62) G10(11.43,-7.62) G11(12.7,-7.62) G12(13.97,-7.62) G13(15.24,-7.62) G14(16.51,-7.62) G15(17.78,-7.62) G16(19.05,-7.62) G17(20.32,-7.62) G18(21.59,-7.62) G19(22.86,-7.62) G20(24.13,-7.62) G21(25.4,-7.62) H1(0,-8.89) H2(1.27,-8.89) H3(2.54,-8.89) H4(3.81,-8.89) H5(5.08,-8.89) H6(6.35,-8.89) H7(7.62,-8.89) H8(8.89,-8.89) H9(10.16,-8.89) H10(11.43,-8.89) H11(12.7,-8.89) H12(13.97,-8.89) H13(15.24,-8.89) H14(16.51,-8.89) H15(17.78,-8.89) H16(19.05,-8.89) H17(20.32,-8.89) H18(21.59,-8.89) H19(22.86,-8.89) H20(24.13,-8.89) H21(25.4,-8.89) J1(0,-10.16) J2(1.27,-10.16) J3(2.54,-10.16) J4(3.81,-10.16) J5(5.08,-10.16) J6(6.35,-10.16) J7(7.62,-10.16) J8(8.89,-10.16) J9(10.16,-10.16) J10(11.43,-10.16) J11(12.7,-10.16) J12(13.97,-10.16) J13(15.24,-10.16) J14(16.51,-10.16) J15(17.78,-10.16) J16(19.05,-10.16) J17(20.32,-10.16) J18(21.59,-10.16) J19(22.86,-10.16) J20(24.13,-10.16) J21(25.4,-10.16) K1(0,-11.43) K2(1.27,-11.43) K3(2.54,-11.43) K4(3.81,-11.43) K5(5.08,-11.43) K6(6.35,-11.43) K7(7.62,-11.43) K8(8.89,-11.43) K9(10.16,-11.43) K10(11.43,-11.43) K11(12.7,-11.43) K12(13.97,-11.43) K13(15.24,-11.43) K14(16.51,-11.43) K15(17.78,-11.43) K16(19.05,-11.43) K17(20.32,-11.43) K18(21.59,-11.43) K19(22.86,-11.43) K20(24.13,-11.43) K21(25.4,-11.43) L1(0,-12.7) L2(1.27,-12.7) L3(2.54,-12.7) L4(3.81,-12.7) L5(5.08,-12.7) L6(6.35,-12.7) L7(7.62,-12.7) L8(8.89,-12.7) L9(10.16,-12.7) L10(11.43,-12.7) L11(12.7,-12.7) L12(13.97,-12.7) L13(15.24,-12.7) L14(16.51,-12.7) L15(17.78,-12.7) L16(19.05,-12.7) L17(20.32,-12.7) L18(21.59,-12.7) L19(22.86,-12.7) L20(24.13,-12.7) L21(25.4,-12.7) M1(0,-13.97) M2(1.27,-13.97) M3(2.54,-13.97) M4(3.81,-13.97) M5(5.08,-13.97) M6(6.35,-13.97) M7(7.62,-13.97) M8(8.89,-13.97) M9(10.16,-13.97) M10(11.43,-13.97) M11(12.7,-13.97) M12(13.97,-13.97) M13(15.24,-13.97) M14(16.51,-13.97) M15(17.78,-13.97) M16(19.05,-13.97) M17(20.32,-13.97) M18(21.59,-13.97) M19(22.86,-13.97) M20(24.13,-13.97) M21(25.4,-13.97) N1(0,-15.24) N2(1.27,-15.24) N3(2.54,-15.24) N4(3.81,-15.24) N5(5.08,-15.24) N6(6.35,-15.24) N7(7.62,-15.24) N8(8.89,-15.24) N9(10.16,-15.24) N10(11.43,-15.24) N11(12.7,-15.24) N12(13.97,-15.24) N13(15.24,-15.24) N14(16.51,-15.24) N15(17.78,-15.24) N16(19.05,-15.24) N17(20.32,-15.24) N18(21.59,-15.24) N19(22.86,-15.24) N20(24.13,-15.24) N21(25.4,-15.24) P1(0,-16.51) P2(1.27,-16.51) P3(2.54,-16.51) P4(3.81,-16.51) P5(5.08,-16.51) P6(6.35,-16.51) P7(7.62,-16.51) P8(8.89,-16.51) P9(10.16,-16.51) P10(11.43,-16.51) P11(12.7,-16.51) P12(13.97,-16.51) P13(15.24,-16.51) P14(16.51,-16.51) P15(17.78,-16.51) P16(19.05,-16.51) P17(20.32,-16.51) P18(21.59,-16.51) P19(22.86,-16.51) P20(24.13,-16.51) P21(25.4,-16.51) R1(0,-17.78) R2(1.27,-17.78) R3(2.54,-17.78) R4(3.81,-17.78) R5(5.08,-17.78) R6(6.35,-17.78) R7(7.62,-17.78) R8(8.89,-17.78) R9(10.16,-17.78) R10(11.43,-17.78) R11(12.7,-17.78) R12(13.97,-17.78) R13(15.24,-17.78) R14(16.51,-17.78) R15(17.78,-17.78) R16(19.05,-17.78) R17(20.32,-17.78) R18(21.59,-17.78) R19(22.86,-17.78) R20(24.13,-17.78) R21(25.4,-17.78) T1(0,-19.05) T2(1.27,-19.05) T3(2.54,-19.05) T4(3.81,-19.05) T5(5.08,-19.05) T6(6.35,-19.05) T7(7.62,-19.05) T8(8.89,-19.05) T9(10.16,-19.05) T10(11.43,-19.05) T11(12.7,-19.05) T12(13.97,-19.05) T13(15.24,-19.05) T14(16.51,-19.05) T15(17.78,-19.05) T16(19.05,-19.05) T17(20.32,-19.05) T18(21.59,-19.05) T19(22.86,-19.05) T20(24.13,-19.05) T21(25.4,-19.05) U1(0,-20.32) U2(1.27,-20.32) U3(2.54,-20.32) U4(3.81,-20.32) U5(5.08,-20.32) U6(6.35,-20.32) U7(7.62,-20.32) U8(8.89,-20.32) U9(10.16,-20.32) U10(11.43,-20.32) U11(12.7,-20.32) U12(13.97,-20.32) U13(15.24,-20.32) U14(16.51,-20.32) U15(17.78,-20.32) U16(19.05,-20.32) U17(20.32,-20.32) U18(21.59,-20.32) U19(22.86,-20.32) U20(24.13,-20.32) U21(25.4,-20.32) V1(0,-21.59) V2(1.27,-21.59) V3(2.54,-21.59) V4(3.81,-21.59) V5(5.08,-21.59) V6(6.35,-21.59) V7(7.62,-21.59) V8(8.89,-21.59) V9(10.16,-21.59) V10(11.43,-21.59) V11(12.7,-21.59) V12(13.97,-21.59) V13(15.24,-21.59) V14(16.51,-21.59) V15(17.78,-21.59) V16(19.05,-21.59) V17(20.32,-21.59) V18(21.59,-21.59) V19(22.86,-21.59) V20(24.13,-21.59) V21(25.4,-21.59) W1(0,-22.86) W2(1.27,-22.86) W3(2.54,-22.86) W4(3.81,-22.86) W5(5.08,-22.86) W6(6.35,-22.86) W7(7.62,-22.86) W8(8.89,-22.86) W9(10.16,-22.86) W10(11.43,-22.86) W11(12.7,-22.86) W12(13.97,-22.86) W13(15.24,-22.86) W14(16.51,-22.86) W15(17.78,-22.86) W16(19.05,-22.86) W17(20.32,-22.86) W18(21.59,-22.86) W19(22.86,-22.86) W20(24.13,-22.86) W21(25.4,-22.86) Y2(1.27,-24.13) Y3(2.54,-24.13) Y4(3.81,-24.13) Y5(5.08,-24.13) Y6(6.35,-24.13) Y7(7.62,-24.13) Y8(8.89,-24.13) Y9(10.16,-24.13) Y10(11.43,-24.13) Y11(12.7,-24.13) Y12(13.97,-24.13) Y13(15.24,-24.13) Y14(16.51,-24.13) Y15(17.78,-24.13) Y16(19.05,-24.13) Y17(20.32,-24.13) Y18(21.59,-24.13) Y19(22.86,-24.13) Y20(24.13,-24.13)
Top Overlay:
  lines w0.2: -0.8,-26.2 26.2,-26.2 26.2,0.8 -0.4,0.8 -0.8,0.4 -0.8,-26.2

## BGA35X35-B352 [mm]
pads (352):
  oct 0.6x0.6 smd: A1(0,0)
  round 0.6 smd: A2(1.27,0) A3(2.54,0) A4(3.81,0) A5(5.08,0) A6(6.35,0) A7(7.62,0) A8(8.89,0) A9(10.16,0) A10(11.43,0) A11(12.7,0) A12(13.97,0) A13(15.24,0) A14(16.51,0) A15(17.78,0) A16(19.05,0) A17(20.32,0) A18(21.59,0) A19(22.86,0) A20(24.13,0) A21(25.4,0) A22(26.67,0) A23(27.94,0) A24(29.21,0) A25(30.48,0) A26(31.75,0) AA1(0,-25.4) AA2(1.27,-25.4) AA3(2.54,-25.4) AA4(3.81,-25.4) AA23(27.94,-25.4) AA24(29.21,-25.4) AA25(30.48,-25.4) AA26(31.75,-25.4) AB1(0,-26.67) AB2(1.27,-26.67) AB3(2.54,-26.67) AB4(3.81,-26.67) AB23(27.94,-26.67) AB24(29.21,-26.67) AB25(30.48,-26.67) AB26(31.75,-26.67) AC1(0,-27.94) AC2(1.27,-27.94) AC3(2.54,-27.94) AC4(3.81,-27.94) AC5(5.08,-27.94) AC6(6.35,-27.94) AC7(7.62,-27.94) AC8(8.89,-27.94) AC9(10.16,-27.94) AC10(11.43,-27.94) AC11(12.7,-27.94) AC12(13.97,-27.94) AC13(15.24,-27.94) AC14(16.51,-27.94) AC15(17.78,-27.94) AC16(19.05,-27.94) AC17(20.32,-27.94) AC18(21.59,-27.94) AC19(22.86,-27.94) AC20(24.13,-27.94) AC21(25.4,-27.94) AC22(26.67,-27.94) AC23(27.94,-27.94) AC24(29.21,-27.94) AC25(30.48,-27.94) AC26(31.75,-27.94) AD1(0,-29.21) AD2(1.27,-29.21) AD3(2.54,-29.21) AD4(3.81,-29.21) AD5(5.08,-29.21) AD6(6.35,-29.21) AD7(7.62,-29.21) AD8(8.89,-29.21) AD9(10.16,-29.21) AD10(11.43,-29.21) AD11(12.7,-29.21) AD12(13.97,-29.21) AD13(15.24,-29.21) AD14(16.51,-29.21) AD15(17.78,-29.21) AD16(19.05,-29.21) AD17(20.32,-29.21) AD18(21.59,-29.21) AD19(22.86,-29.21) AD20(24.13,-29.21) AD21(25.4,-29.21) AD22(26.67,-29.21) AD23(27.94,-29.21) AD24(29.21,-29.21) AD25(30.48,-29.21) AD26(31.75,-29.21) AE1(0,-30.48) AE2(1.27,-30.48) AE3(2.54,-30.48) AE4(3.81,-30.48) AE5(5.08,-30.48) AE6(6.35,-30.48) AE7(7.62,-30.48) AE8(8.89,-30.48) AE9(10.16,-30.48) AE10(11.43,-30.48) AE11(12.7,-30.48) AE12(13.97,-30.48) AE13(15.24,-30.48) AE14(16.51,-30.48) AE15(17.78,-30.48) AE16(19.05,-30.48) AE17(20.32,-30.48) AE18(21.59,-30.48) AE19(22.86,-30.48) AE20(24.13,-30.48) AE21(25.4,-30.48) AE22(26.67,-30.48) AE23(27.94,-30.48) AE24(29.21,-30.48) AE25(30.48,-30.48) AE26(31.75,-30.48) AF1(0,-31.75) AF2(1.27,-31.75) AF3(2.54,-31.75) AF4(3.81,-31.75) AF5(5.08,-31.75) AF6(6.35,-31.75) AF7(7.62,-31.75) AF8(8.89,-31.75) AF9(10.16,-31.75) AF10(11.43,-31.75) AF11(12.7,-31.75) AF12(13.97,-31.75) AF13(15.24,-31.75) AF14(16.51,-31.75) AF15(17.78,-31.75) AF16(19.05,-31.75) AF17(20.32,-31.75) AF18(21.59,-31.75) AF19(22.86,-31.75) AF20(24.13,-31.75) AF21(25.4,-31.75) AF22(26.67,-31.75) AF23(27.94,-31.75) AF24(29.21,-31.75) AF25(30.48,-31.75) AF26(31.75,-31.75) B1(0,-1.27) B2(1.27,-1.27) B3(2.54,-1.27) B4(3.81,-1.27) B5(5.08,-1.27) B6(6.35,-1.27) B7(7.62,-1.27) B8(8.89,-1.27) B9(10.16,-1.27) B10(11.43,-1.27) B11(12.7,-1.27) B12(13.97,-1.27) B13(15.24,-1.27) B14(16.51,-1.27) B15(17.78,-1.27) B16(19.05,-1.27) B17(20.32,-1.27) B18(21.59,-1.27) B19(22.86,-1.27) B20(24.13,-1.27) B21(25.4,-1.27) B22(26.67,-1.27) B23(27.94,-1.27) B24(29.21,-1.27) B25(30.48,-1.27) B26(31.75,-1.27) C1(0,-2.54) C2(1.27,-2.54) C3(2.54,-2.54) C4(3.81,-2.54) C5(5.08,-2.54) C6(6.35,-2.54) C7(7.62,-2.54) C8(8.89,-2.54) C9(10.16,-2.54) C10(11.43,-2.54) C11(12.7,-2.54) C12(13.97,-2.54) C13(15.24,-2.54) C14(16.51,-2.54) C15(17.78,-2.54) C16(19.05,-2.54) C17(20.32,-2.54) C18(21.59,-2.54) C19(22.86,-2.54) C20(24.13,-2.54) C21(25.4,-2.54) C22(26.67,-2.54) C23(27.94,-2.54) C24(29.21,-2.54) C25(30.48,-2.54) C26(31.75,-2.54) D1(0,-3.81) D2(1.27,-3.81) D3(2.54,-3.81) D4(3.81,-3.81) D5(5.08,-3.81) D6(6.35,-3.81) D7(7.62,-3.81) D8(8.89,-3.81) D9(10.16,-3.81) D10(11.43,-3.81) D11(12.7,-3.81) D12(13.97,-3.81) D13(15.24,-3.81) D14(16.51,-3.81) D15(17.78,-3.81) D16(19.05,-3.81) D17(20.32,-3.81) D18(21.59,-3.81) D19(22.86,-3.81) D20(24.13,-3.81) D21(25.4,-3.81) D22(26.67,-3.81) D23(27.94,-3.81) D24(29.21,-3.81) D25(30.48,-3.81) D26(31.75,-3.81) E1(0,-5.08) E2(1.27,-5.08) E3(2.54,-5.08) E4(3.81,-5.08) E23(27.94,-5.08) E24(29.21,-5.08) E25(30.48,-5.08) E26(31.75,-5.08) F1(0,-6.35) F2(1.27,-6.35) F3(2.54,-6.35) F4(3.81,-6.35) F23(27.94,-6.35) F24(29.21,-6.35) F25(30.48,-6.35) F26(31.75,-6.35) G1(0,-7.62) G2(1.27,-7.62) G3(2.54,-7.62) G4(3.81,-7.62) G23(27.94,-7.62) G24(29.21,-7.62) G25(30.48,-7.62) G26(31.75,-7.62) H1(0,-8.89) H2(1.27,-8.89) H3(2.54,-8.89) H4(3.81,-8.89) H23(27.94,-8.89) H24(29.21,-8.89) H25(30.48,-8.89) H26(31.75,-8.89) J1(0,-10.16) J2(1.27,-10.16) J3(2.54,-10.16) J4(3.81,-10.16) J23(27.94,-10.16) J24(29.21,-10.16) J25(30.48,-10.16) J26(31.75,-10.16) K1(0,-11.43) K2(1.27,-11.43) K3(2.54,-11.43) K4(3.81,-11.43) K23(27.94,-11.43) K24(29.21,-11.43) K25(30.48,-11.43) K26(31.75,-11.43) L1(0,-12.7) L2(1.27,-12.7) L3(2.54,-12.7) L4(3.81,-12.7) L23(27.94,-12.7) L24(29.21,-12.7) L25(30.48,-12.7) L26(31.75,-12.7) M1(0,-13.97) M2(1.27,-13.97) M3(2.54,-13.97) M4(3.81,-13.97) M23(27.94,-13.97) M24(29.21,-13.97) M25(30.48,-13.97) M26(31.75,-13.97) N1(0,-15.24) N2(1.27,-15.24) N3(2.54,-15.24) N4(3.81,-15.24) N23(27.94,-15.24) N24(29.21,-15.24) N25(30.48,-15.24) N26(31.75,-15.24) P1(0,-16.51) P2(1.27,-16.51) P3(2.54,-16.51) P4(3.81,-16.51) P23(27.94,-16.51) P24(29.21,-16.51) P25(30.48,-16.51) P26(31.75,-16.51) R1(0,-17.78) R2(1.27,-17.78) R3(2.54,-17.78) R4(3.81,-17.78) R23(27.94,-17.78) R24(29.21,-17.78) R25(30.48,-17.78) R26(31.75,-17.78) T1(0,-19.05) T2(1.27,-19.05) T3(2.54,-19.05) T4(3.81,-19.05) T23(27.94,-19.05) T24(29.21,-19.05) T25(30.48,-19.05) T26(31.75,-19.05) U1(0,-20.32) U2(1.27,-20.32) U3(2.54,-20.32) U4(3.81,-20.32) U23(27.94,-20.32) U24(29.21,-20.32) U25(30.48,-20.32) U26(31.75,-20.32) V1(0,-21.59) V2(1.27,-21.59) V3(2.54,-21.59) V4(3.81,-21.59) V23(27.94,-21.59) V24(29.21,-21.59) V25(30.48,-21.59) V26(31.75,-21.59) W1(0,-22.86) W2(1.27,-22.86) W3(2.54,-22.86) W4(3.81,-22.86) W23(27.94,-22.86) W24(29.21,-22.86) W25(30.48,-22.86) W26(31.75,-22.86) Y1(0,-24.13) Y2(1.27,-24.13) Y3(2.54,-24.13) Y4(3.81,-24.13) Y23(27.94,-24.13) Y24(29.21,-24.13) Y25(30.48,-24.13) Y26(31.75,-24.13)
Top Overlay:
  lines w0.2: -1.625,-33.375 33.375,-33.375 33.375,1.625 -0.812,1.625 -1.625,0.812 -1.625,-33.375

## CDFP-G10/Y2.2 [mm]
pads (10):
  rect 2.2x0.6 smd: 1(0,0) 2(0,-1.27) 3(0,-2.54) 4(0,-3.81) 5(0,-5.08) 6(8.7,-5.08) 7(8.7,-3.81) 8(8.7,-2.54) 9(8.7,-1.27) 10(8.7,0)
Top Overlay:
  circle w0.25: c0,1.1 r0.15
  lines w0.25: 1.5,-6.115 1.5,1.035 3.715,1.035 ccw(c4.35,1.035) 4.985,1.035 7.2,1.035 7.2,-6.115 1.5,-6.115

## CDFP-G14/C9 [mm]
pads (14):
  rect 2.2x0.65 smd: 1(0,0) 2(0,-1.27) 3(0,-2.54) 4(0,-3.81) 5(0,-5.08) 6(0,-6.35) 7(0,-7.62) 8(9,-7.62) 9(9,-6.35) 10(9,-5.08) 11(9,-3.81) 12(9,-2.54) 13(9,-1.27) 14(9,0)
Top Overlay:
  circle w0.25: c0,1.125 r0.15
  lines w0.25: 1.5,-8.785 7.5,-8.785 7.5,1.165 5.135,1.165 cw(c4.5,1.165) 3.865,1.165 1.5,1.165 1.5,-8.785

## CDFP-G16/X.65 [mm]
pads (16):
  rect 2.2x0.65 smd: 1(0,0) 2(0,-1.27) 3(0,-2.54) 4(0,-3.81) 5(0,-5.08) 6(0,-6.35) 7(0,-7.62) 8(0,-8.89) 9(9.6,-8.89) 10(9.6,-7.62) 11(9.6,-6.35) 12(9.6,-5.08) 13(9.6,-3.81) 14(9.6,-2.54) 15(9.6,-1.27) 16(9.6,0)
Top Overlay:
  circle w0.25: c0,1.125 r0.15
  lines w0.25: 1.5,-9.92 1.5,1.03 4.165,1.03 ccw(c4.8,1.03) 5.435,1.03 8.1,1.03 8.1,-9.92 1.5,-9.92

## CDFP-G20/C10 [mm]
pads (20):
  rect 2.2x0.65 smd: 1(0,0) 2(0,-1.27) 3(0,-2.54) 4(0,-3.81) 5(0,-5.08) 6(0,-6.35) 7(0,-7.62) 8(0,-8.89) 9(0,-10.16) 10(0,-11.43) 11(10,-11.43) 12(10,-10.16) 13(10,-8.89) 14(10,-7.62) 15(10,-6.35) 16(10,-5.08) 17(10,-3.81) 18(10,-2.54) 19(10,-1.27) 20(10,0)
Top Overlay:
  circle w0.25: c0,1.125 r0.15
  lines w0.25: 1.5,-12.59 8.5,-12.59 8.5,1.16 5.635,1.16 cw(c5,1.16) 4.365,1.16 1.5,1.16 1.5,-12.59

## CDFP-G24/X.65 [mm]
pads (24):
  rect 2.2x0.65 smd: 1(0,0) 2(0,-1.27) 3(0,-2.54) 4(0,-3.81) 5(0,-5.08) 6(0,-6.35) 7(0,-7.62) 8(0,-8.89) 9(0,-10.16) 10(0,-11.43) 11(0,-12.7) 12(0,-13.97) 13(13.35,-13.97) 14(13.35,-12.7) 15(13.35,-11.43) 16(13.35,-10.16) 17(13.35,-8.89) 18(13.35,-7.62) 19(13.35,-6.35) 20(13.35,-5.08) 21(13.35,-3.81) 22(13.35,-2.54) 23(13.35,-1.27) 24(13.35,0)
Top Overlay:
  circle w0.25: c0,1.125 r0.15
  lines w0.25: 1.5,-15.135 11.85,-15.135 11.85,1.165 7.31,1.165 cw(c6.675,1.165) 6.04,1.165 1.5,1.165 1.5,-15.135

## CDFP-G48/X.45 [mm]
pads (48):
  rect 2.2x0.45 smd: 1(0,0) 2(0,-0.635) 3(0,-1.27) 4(0,-1.905) 5(0,-2.54) 6(0,-3.175) 7(0,-3.81) 8(0,-4.445) 9(0,-5.08) 10(0,-5.715) 11(0,-6.35) 12(0,-6.985) 13(0,-7.62) 14(0,-8.255) 15(0,-8.89) 16(0,-9.525) 17(0,-10.16) 18(0,-10.795) 19(0,-11.43) 20(0,-12.065) 21(0,-12.7) 22(0,-13.335) 23(0,-13.97) 24(0,-14.605) 25(13.75,-14.605) 26(13.75,-13.97) 27(13.75,-13.335) 28(13.75,-12.7) 29(13.75,-12.065) 30(13.75,-11.43) 31(13.75,-10.795) 32(13.75,-10.16) 33(13.75,-9.525) 34(13.75,-8.89) 35(13.75,-8.255) 36(13.75,-7.62) 37(13.75,-6.985) 38(13.75,-6.35) 39(13.75,-5.715) 40(13.75,-5.08) 41(13.75,-4.445) 42(13.75,-3.81) 43(13.75,-3.175) 44(13.75,-2.54) 45(13.75,-1.905) 46(13.75,-1.27) 47(13.75,-0.635) 48(13.75,0)
Top Overlay:
  circle w0.25: c0,1.025 r0.15
  lines w0.25: 1.5,-15.452 12.25,-15.452 12.25,0.847 7.51,0.847 cw(c6.875,0.847) 6.24,0.847 1.5,0.847 1.5,-15.452

## CDFP-G56/X.45 [mm]
pads (56):
  rect 2.2x0.45 smd: 1(0,0) 2(0,-0.635) 3(0,-1.27) 4(0,-1.905) 5(0,-2.54) 6(0,-3.175) 7(0,-3.81) 8(0,-4.445) 9(0,-5.08) 10(0,-5.715) 11(0,-6.35) 12(0,-6.985) 13(0,-7.62) 14(0,-8.255) 15(0,-8.89) 16(0,-9.525) 17(0,-10.16) 18(0,-10.795) 19(0,-11.43) 20(0,-12.065) 21(0,-12.7) 22(0,-13.335) 23(0,-13.97) 24(0,-14.605) 25(0,-15.24) 26(0,-15.875) 27(0,-16.51) 28(0,-17.145) 29(13.75,-17.145) 30(13.75,-16.51) 31(13.75,-15.875) 32(13.75,-15.24) 33(13.75,-14.605) 34(13.75,-13.97) 35(13.75,-13.335) 36(13.75,-12.7) 37(13.75,-12.065) 38(13.75,-11.43) 39(13.75,-10.795) 40(13.75,-10.16) 41(13.75,-9.525) 42(13.75,-8.89) 43(13.75,-8.255) 44(13.75,-7.62) 45(13.75,-6.985) 46(13.75,-6.35) 47(13.75,-5.715) 48(13.75,-5.08) 49(13.75,-4.445) 50(13.75,-3.81) 51(13.75,-3.175) 52(13.75,-2.54) 53(13.75,-1.905) 54(13.75,-1.27) 55(13.75,-0.635) 56(13.75,0)
Top Overlay:
  circle w0.25: c0,1.025 r0.15
  lines w0.25: 1.5,-17.973 12.25,-17.973 12.25,0.828 7.51,0.828 cw(c6.875,0.828) 6.24,0.828 1.5,0.828 1.5,-17.973

## CDFP-G64 [mm]
pads (64):
  rect 2.2x0.35 smd: 1(0,0) 2(0,-0.5) 3(0,-1) 4(0,-1.5) 5(0,-2) 6(0,-2.5) 7(0,-3) 8(0,-3.5) 9(0,-4) 10(0,-4.5) 11(0,-5) 12(0,-5.5) 13(0,-6) 14(0,-6.5) 15(0,-7) 16(0,-7.5) 17(0,-8) 18(0,-8.5) 19(0,-9) 20(0,-9.5) 21(0,-10) 22(0,-10.5) 23(0,-11) 24(0,-11.5) 25(0,-12) 26(0,-12.5) 27(0,-13) 28(0,-13.5) 29(0,-14) 30(0,-14.5) 31(0,-15) 32(0,-15.5) 33(14.6,-15.5) 34(14.6,-15) 35(14.6,-14.5) 36(14.6,-14) 37(14.6,-13.5) 38(14.6,-13) 39(14.6,-12.5) 40(14.6,-12) 41(14.6,-11.5) 42(14.6,-11) 43(14.6,-10.5) 44(14.6,-10) 45(14.6,-9.5) 46(14.6,-9) 47(14.6,-8.5) 48(14.6,-8) 49(14.6,-7.5) 50(14.6,-7) 51(14.6,-6.5) 52(14.6,-6) 53(14.6,-5.5) 54(14.6,-5) 55(14.6,-4.5) 56(14.6,-4) 57(14.6,-3.5) 58(14.6,-3) 59(14.6,-2.5) 60(14.6,-2) 61(14.6,-1.5) 62(14.6,-1) 63(14.6,-0.5) 64(14.6,0)
Top Overlay:
  circle w0.25: c0,0.975 r0.15
  lines w0.25: 1.5,-17.475 13.1,-17.475 13.1,1.975 7.935,1.975 cw(c7.3,1.975) 6.665,1.975 1.5,1.975 1.5,-17.475